# EAGLE library part TEXAS_TLC59108F (library sile)
PWM LED driver http://focus.ti.com/lit/ds/symlink/tlc59108f.pdf
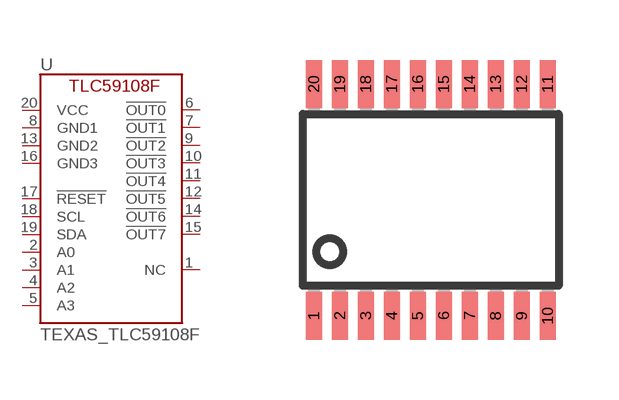
[diagram p0: symbol with the pads of TEXAS_PW_R-PDSO-G20; footprint TEXAS_PW_R-PDSO-G20]

Designator prefix -

## TEXAS_TLC59108F  [TEXAS_PW_R-PDSO-G20]
1  NC  nc
2  A0  in
3  A1  in
4  A2  in
5  A3  in
6  !OUT0  out
7  !OUT1  out
8  GND1  pwr
9  !OUT2  out
10  !OUT3  out
11  !OUT4  out
12  !OUT5  out
13  GND2  pwr
14  !OUT6  out
15  !OUT7  out
16  GND3  pwr
17  !RESET  in
18  SCL
19  SDA
20  VCC  pwr

## Footprint TEXAS_PW_R-PDSO-G20 (pad centres in mm)
PLASTIC SMALL-OUTLINE PACKAGE SO 20 JEDEC MO-153, PW Type Source: www.ti.com/.. slvs087l.pdf
smd 0.4 x 1.2: 1 -2.925,-2.9; 2 -2.275,-2.9; 3 -1.625,-2.9; 4 -0.975,-2.9; 5 -0.325,-2.9; 6 0.325,-2.9; 7 0.975,-2.9; 8 1.625,-2.9; 9 2.275,-2.9; 10 2.925,-2.9; 11 2.925,2.9; 12 2.275,2.9; 13 1.625,2.9; 14 0.975,2.9; 15 0.325,2.9; 16 -0.325,2.9; 17 -0.975,2.9; 18 -1.625,2.9; 19 -2.275,2.9; 20 -2.925,2.9